# Altium schematic symbol library sch_ConnectorSpecial.SchLib: 9 symbols
Pins are listed as number, name and electrical type; pins without a type are passive.

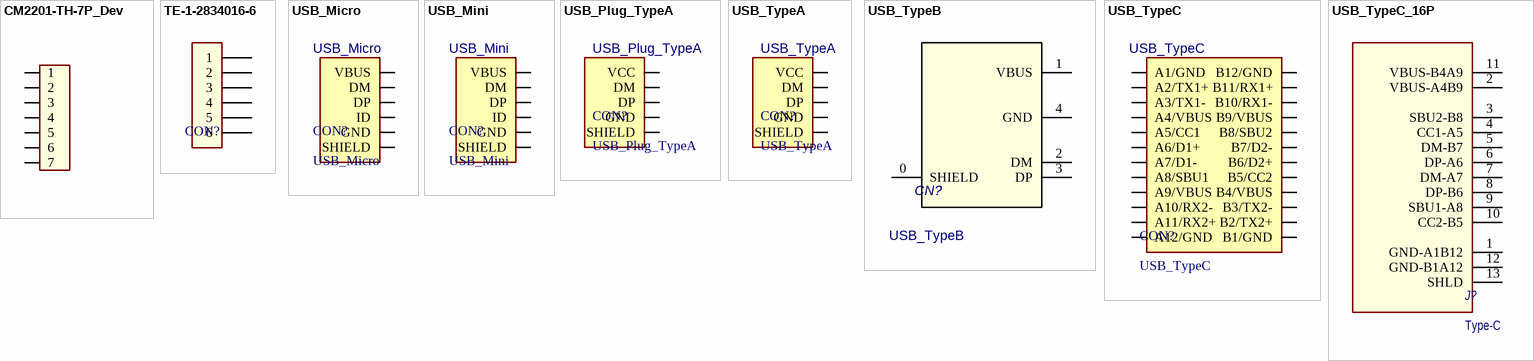
[diagram p0: symbols CM2201-TH-7P_Dev to USB_TypeC_16P]

## CM2201-TH-7P_Dev
designator TP?, comment Lemo
MFR: Mfr?; Package: DIP; PartNumber: Lemo
footprint LEMO-TH_8P
pins: 1, 2, 3, 4, 5, 6, 7

## TE-1-2834016-6
designator CON?  (value not drawn)
MX; MFR: TE; Package: DIP; PartNumber: TE-1-2834016-6
footprint CONN-TH_6P-P2.54_TE-1-2834016-6
pins: 1, 2, 3, 4, 5, 6

## USB_Micro
designator CON?
USB; PartNumber: USB_Micro
footprint USB-MICRO-SMD_B
footprint USB-MICRO-SMD_A
footprint USB-MICRO-SMD_AB
pins: 0 SHIELD, 1 VBUS, 2 DM, 3 DP, 4 ID, 5 GND

## USB_Mini
designator CON?
USB; PartNumber: USB_Mini
footprint USB-MINI-SMD
pins: 0 SHIELD, 1 VBUS, 2 DM, 3 DP, 4 ID, 5 GND

## USB_Plug_TypeA
designator CON?
USB; PartNumber: USB_Plug_TypeA
footprint USB-TYPEA-SMD_M
footprint USB-TypeA-TH_F
pins: 0 SHIELD, 1 VCC, 2 DM, 3 DP, 4 GND

## USB_TypeA
designator CON?
USB; PartNumber: USB_TypeA
footprint USB-TypeA-TH_F
pins: 0 SHIELD, 1 VCC, 2 DM, 3 DP, 4 GND

## USB_TypeB
designator CN?
USB TypeB Receptacle; PartNumber: USB_TypeB
footprint USB-TYPEB-TH_F
pins: 0 SHIELD, 1 VBUS, 2 DM, 3 DP, 4 GND

## USB_TypeC
designator CON?
USB; PartNumber: USB_TypeC
pins: 0 SH, A1 A1/GND, A2 A2/TX1+, A3 A3/TX1-, A4 A4/VBUS, A5 A5/CC1, A6 A6/D1+, A7 A7/D1-, A8 A8/SBU1, A9 A9/VBUS, A10 A10/RX2-, A11 A11/RX2+, A12 A12/GND, B1 B1/GND, B2 B2/TX2+, B3 B3/TX2-, B4 B4/VBUS, B5 B5/CC2, B6 B6/D2+, B7 B7/D2-, B8 B8/SBU2, B9 B9/VBUS, B10 B10/RX1-, B11 B11/RX1+, B12 B12/GND

## USB_TypeC_16P
designator J?, comment Type-C
USB TypeC
footprint USB-TYPEC-SMD_16P
pins: 1 GND-A1B12, 2 VBUS-A4B9, 3 SBU2-B8, 4 CC1-A5, 5 DM-B7, 6 DP-A6, 7 DM-A7, 8 DP-B6, 9 SBU1-A8, 10 CC2-B5, 11 VBUS-B4A9, 12 GND-B1A12, 13 SHLD